# EAGLE library part CD4069UBM (library FarnellThings)
CMOS HEX Inverter
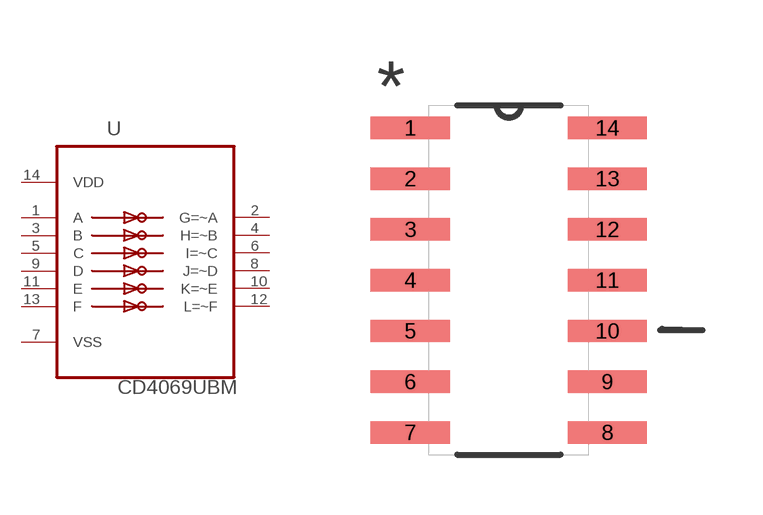
[diagram p14: symbol with the pads of SOIC127P600X175-14N; footprint SOIC127P600X175-14N]

Designator prefix U

## CD4069UBM (MPN: CD4069UBM; OC_FARNELL: 1607751; OC_NEWARK: 76K1022; PACKAGE: SOIC-14; SUPPLIER: Texas Instruments)  [SOIC127P600X175-14N]
1  A  in
2  G=~A  out
3  B  in
4  H=~B  out
5  C  in
6  I=~C  out
7  VSS  pwr
8  J=~D  out
9  D  in
10  K=~E  out
11  E  in
12  L=~F  out
13  F  in
14  VDD  pwr

## Footprint SOIC127P600X175-14N (pad centres in mm)
smd 1.981 x 0.559: 1 -2.464,3.81; 2 -2.464,2.54; 3 -2.464,1.27; 4 -2.464,0; 5 -2.464,-1.27; 6 -2.464,-2.54; 7 -2.464,-3.81; 8 2.464,-3.81; 9 2.464,-2.54; 10 2.464,-1.27; 11 2.464,0; 12 2.464,1.27; 13 2.464,2.54; 14 2.464,3.81